# Altium footprint library SPMWHT541MP5WATMS4.PcbLib: 1 footprints
Each footprint in its own frame and in the unit in brackets; x right, y up, seen from the top. Pads: shape width x height; smd on the part's side, far side on the other; paste and mask are expansions set on the pad; w line width, h text height; cw(c..) or ccw(c..) is an arc to the next point about the centre after c.
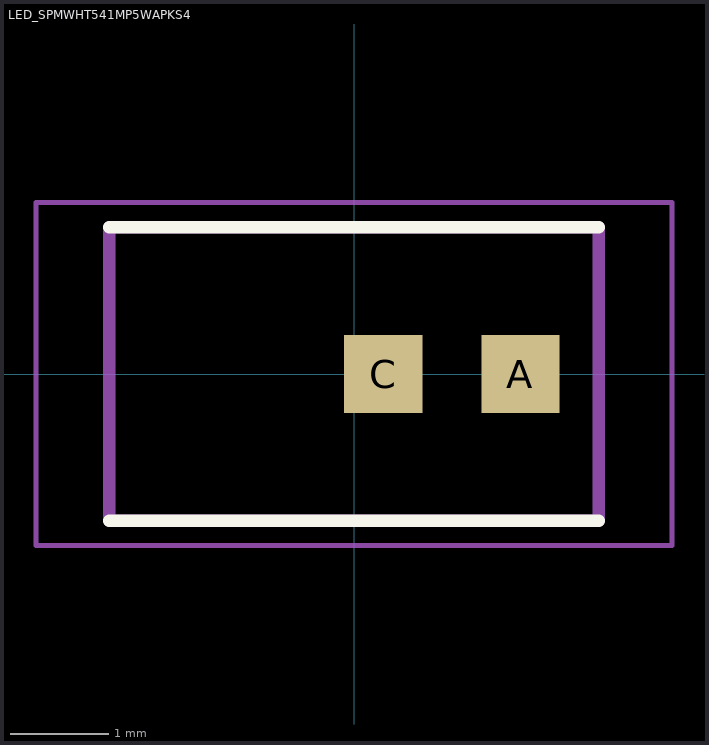
[diagram p0: the footprint, top view; thin cyan lines are the x and y axes]

## LED_SPMWHT541MP5WAPKS4 [mm]
pads (2):
  rect 0.8x0.8 smd paste-1 mask+0: A(1.7,0) C(0.3,0)
Top Overlay:
  lines w0.127: -2.5,-1.5 2.5,-1.5 ; -2.5,1.5 2.5,1.5
Mechanical 13:
  lines w0.127: -2.5,-1.5 2.5,-1.5 2.5,1.5 -2.5,1.5 -2.5,-1.5
Mechanical 15:
  lines w0.05: -3.25,-1.75 3.25,-1.75 3.25,1.75 -3.25,1.75 -3.25,-1.75
3D body "step_temp.STEP": height 0.8, standoff 0, extent -2.8,-1.5 2.8,1.5